# Altium schematic symbol library Temperature Sensor.SchLib: 361 symbols (part 5 of 9)
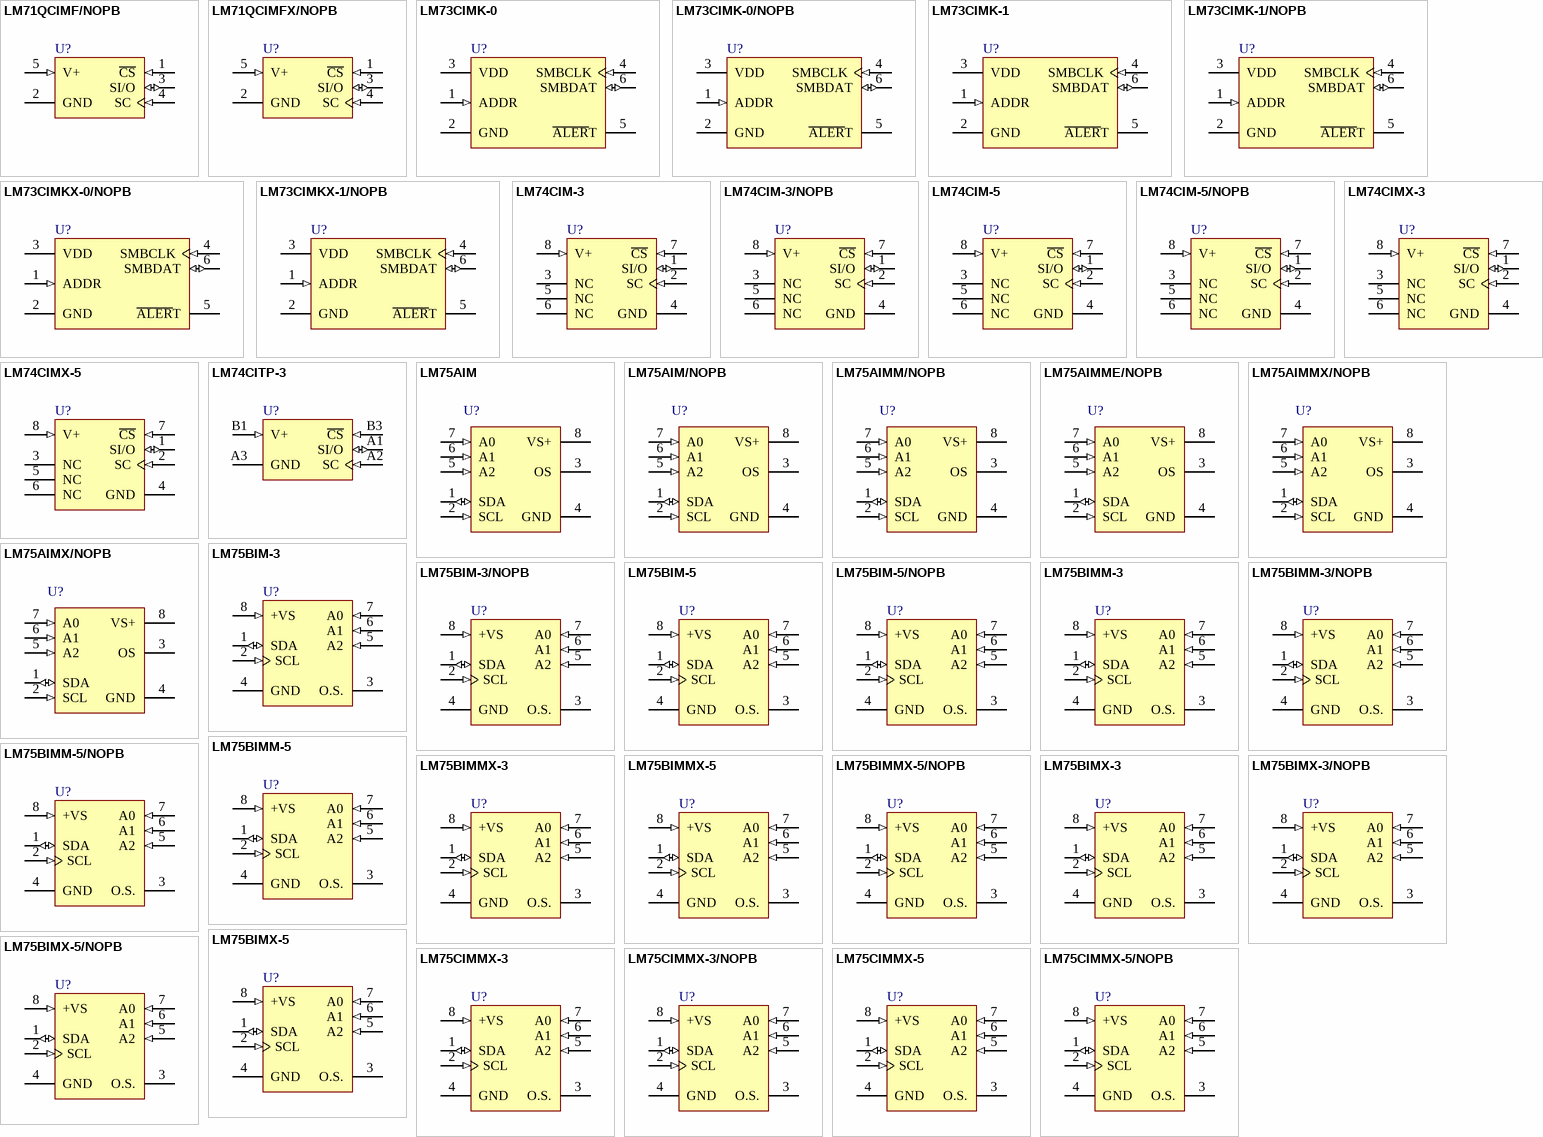
[diagram p13: symbols LM71QCIMF/NOPB to LM75CIMMX-5/NOPB]

## LM74CIM-5/NOPB
designator U?
SPI/MICROWIRE 12-Bit Plus Sign Temperature Sensor, 8-pin Narrow SOIC, Pb-Free; PartNumber: LM74CIM-5/NOPB; Manufacturer: National Semiconductor; PackageTopMarking: NSZXTT*LM74*CIM5; PowerWise: N; CompType: Temp Sensor IC; High-Reliability: Y; DatasheetVersion: May-2005; PackageVersion: revM, May-2009; PackageReference: M08A; PackageDescription: SOIC Narrow, 4.9 x 3.9 x 1.45mm, 8 Lead, 1.27mm Pitch; RoHS: Y; PinCount: 8; Code_JEDEC: MS-012-AA; Code_IPC: SOIC127P600-8; ComponentLink1Description: Manufacturer URL; ComponentLink1URL: http://www.national.com/; ComponentLink2Description: LM74 Datasheet; ComponentLink2URL: http://www.national.com/ds/LM/LM74.pdf; ComponentLink3Description: LM74 Web Page; ComponentLink3URL: http://www.national.com/pf/LM/LM74.html; ComponentLink4Description: M08A Package Page; ComponentLink4URL: http://www.national.com/packaging/folders/m08a.html
footprint M08A_N (SOIC, 8-Leads, Body 4.9x3.9mm, Pitch 1.27mm, IPC Medium Density)
footprint M08A_L (SOIC, 8-Leads, Body 4.9x3.9mm, Pitch 1.27mm, IPC High Density)
footprint M08A_M (SOIC, 8-Leads, Body 4.9x3.9mm, Pitch 1.27mm, IPC Low Density)
pins: 1 SI/O (io), 2 SC (in), 3 NC, 4 GND (power), 5 NC, 6 NC, 7 ~{CS} (in), 8 V+ (in)

## LM74CIMX-3
designator U?
SPI/MICROWIRE 12-Bit Plus Sign Temperature Sensor, 8-pin Narrow SOIC; PartNumber: LM74CIMX-3; Manufacturer: National Semiconductor; PackageTopMarking: NSZXTT*LM74*CIM3; PowerWise: N; CompType: Temp Sensor IC; High-Reliability: Y; DatasheetVersion: May-2005; PackageVersion: revM, May-2009; PackageReference: M08A; PackageDescription: SOIC Narrow, 4.9 x 3.9 x 1.45mm, 8 Lead, 1.27mm Pitch; RoHS: N; PinCount: 8; Code_JEDEC: MS-012-AA; Code_IPC: SOIC127P600-8; ComponentLink1Description: Manufacturer URL; ComponentLink1URL: http://www.national.com/; ComponentLink2Description: LM74 Datasheet; ComponentLink2URL: http://www.national.com/ds/LM/LM74.pdf; ComponentLink3Description: LM74 Web Page; ComponentLink3URL: http://www.national.com/pf/LM/LM74.html; ComponentLink4Description: M08A Package Page; ComponentLink4URL: http://www.national.com/packaging/folders/m08a.html
footprint M08A_N (SOIC, 8-Leads, Body 4.9x3.9mm, Pitch 1.27mm, IPC Medium Density)
footprint M08A_L (SOIC, 8-Leads, Body 4.9x3.9mm, Pitch 1.27mm, IPC High Density)
footprint M08A_M (SOIC, 8-Leads, Body 4.9x3.9mm, Pitch 1.27mm, IPC Low Density)
pins: 1 SI/O (io), 2 SC (in), 3 NC, 4 GND (power), 5 NC, 6 NC, 7 ~{CS} (in), 8 V+ (in)

## LM74CIMX-5
designator U?
SPI/MICROWIRE 12-Bit Plus Sign Temperature Sensor, 8-pin Narrow SOIC; PartNumber: LM74CIMX-5; Manufacturer: National Semiconductor; PackageTopMarking: NSZXTT*LM74*CIM5; PowerWise: N; CompType: Temp Sensor IC; High-Reliability: Y; DatasheetVersion: May-2005; PackageVersion: revM, May-2009; PackageReference: M08A; PackageDescription: SOIC Narrow, 4.9 x 3.9 x 1.45mm, 8 Lead, 1.27mm Pitch; RoHS: N; PinCount: 8; Code_JEDEC: MS-012-AA; Code_IPC: SOIC127P600-8; ComponentLink1Description: Manufacturer URL; ComponentLink1URL: http://www.national.com/; ComponentLink2Description: LM74 Datasheet; ComponentLink2URL: http://www.national.com/ds/LM/LM74.pdf; ComponentLink3Description: LM74 Web Page; ComponentLink3URL: http://www.national.com/pf/LM/LM74.html; ComponentLink4Description: M08A Package Page; ComponentLink4URL: http://www.national.com/packaging/folders/m08a.html
footprint M08A_N (SOIC, 8-Leads, Body 4.9x3.9mm, Pitch 1.27mm, IPC Medium Density)
footprint M08A_L (SOIC, 8-Leads, Body 4.9x3.9mm, Pitch 1.27mm, IPC High Density)
footprint M08A_M (SOIC, 8-Leads, Body 4.9x3.9mm, Pitch 1.27mm, IPC Low Density)
pins: 1 SI/O (io), 2 SC (in), 3 NC, 4 GND (power), 5 NC, 6 NC, 7 ~{CS} (in), 8 V+ (in)

## LM74CITP-3
designator U?
SPI/MICROWIRE 12-Bit Plus Sign Temperature Sensor, 5-pin Micro SMD; PartNumber: LM74CITP-3; Manufacturer: National Semiconductor; PackageTopMarking: XV*I 10; PowerWise: N; CompType: Temp Sensor IC; High-Reliability: Y; DatasheetVersion: May-2005; PackageVersion: revA, Apr-2005; PackageReference: TPD05QSA; PackageDescription: Thin Micro SMD, 5 Bump, 1.0mm Pitch; RoHS: Y; PinCount: 5; ComponentLink1Description: Manufacturer URL; ComponentLink1URL: http://www.national.com/; ComponentLink2Description: LM74 Datasheet; ComponentLink2URL: http://www.national.com/ds/LM/LM74.pdf; ComponentLink3Description: LM74 Web Page; ComponentLink3URL: http://www.national.com/pf/LM/LM74.html; ComponentLink4Description: TPD05QSA Package Page; ComponentLink4URL: http://www.national.com/packaging/folders/tpd05qsa.html
footprint TPD05QSA (Micro SMD, 5-Leads, Body 1.59x1.64mm, Pitch 0.5mm, NSC Recommended)
pins: A1 SI/O (io), A2 SC (in), A3 GND (power), B1 V+ (in), B3 ~{CS} (in)

## LM75AIM
designator U?
Digital Temperature Sensor and Thermal Watchdog with Two-Wire Interface, 8-pin Narrow SOIC; PartNumber: LM75AIM; Manufacturer: National Semiconductor; PackageTopMarking: NSZXTT*LM75*AIM; PowerWise: N; CompType: Temp Sensor IC; High-Reliability: Y; DatasheetVersion: Jan-2009; PackageVersion: revM, May-2009; PackageReference: M08A; PackageDescription: SOIC Narrow, 4.9 x 3.9 x 1.45mm, 8 Lead, 1.27mm Pitch; RoHS: Y; PinCount: 8; Code_JEDEC: MS-012-AA; Code_IPC: SOIC127P600-8; ComponentLink1Description: Manufacturer URL; ComponentLink1URL: http://www.national.com/; ComponentLink2Description: LM75 Datasheet; ComponentLink2URL: http://www.national.com/ds/LM/LM75.pdf; ComponentLink3Description: LM75 Web Page; ComponentLink3URL: http://www.national.com/pf/LM/LM75.html; ComponentLink4Description: M08A Package Page; ComponentLink4URL: http://www.national.com/packaging/folders/m08a.html
footprint M08A_N (SOIC, 8-Leads, Body 4.9x3.9mm, Pitch 1.27mm, IPC Medium Density)
footprint M08A_L (SOIC, 8-Leads, Body 4.9x3.9mm, Pitch 1.27mm, IPC High Density)
footprint M08A_M (SOIC, 8-Leads, Body 4.9x3.9mm, Pitch 1.27mm, IPC Low Density)
pins: 1 SDA (io), 2 SCL (in), 3 OS (oc), 4 GND (power), 5 A2 (in), 6 A1 (in), 7 A0 (in), 8 VS+ (power)

## LM75AIM/NOPB
designator U?
Digital Temperature Sensor and Thermal Watchdog with Two-Wire Interface, 8-pin Narrow SOIC, Pb-Free; PartNumber: LM75AIM/NOPB; Manufacturer: National Semiconductor; PackageTopMarking: NSZXTT*LM75*AIM; PowerWise: N; CompType: Temp Sensor IC; High-Reliability: Y; DatasheetVersion: Aug-2009; PackageVersion: revM, May-2009; PackageReference: M08A; PackageDescription: SOIC Narrow, 4.9 x 3.9 x 1.45mm, 8 Lead, 1.27mm Pitch; RoHS: Y; PinCount: 8; Code_JEDEC: MS-012-AA; Code_IPC: SOIC127P600-8; ComponentLink1Description: Manufacturer URL; ComponentLink1URL: http://www.national.com/; ComponentLink2Description: LM75A Datasheet; ComponentLink2URL: http://www.national.com/ds/LM/LM75A.pdf; ComponentLink3Description: LM75A Web Page; ComponentLink3URL: http://www.national.com/pf/LM/LM75A.html; ComponentLink4Description: M08A Package Page; ComponentLink4URL: http://www.national.com/packaging/folders/m08a.html
footprint M08A_N (SOIC, 8-Leads, Body 4.9x3.9mm, Pitch 1.27mm, IPC Medium Density)
footprint M08A_L (SOIC, 8-Leads, Body 4.9x3.9mm, Pitch 1.27mm, IPC High Density)
footprint M08A_M (SOIC, 8-Leads, Body 4.9x3.9mm, Pitch 1.27mm, IPC Low Density)
pins: 1 SDA (io), 2 SCL (in), 3 OS (oc), 4 GND (power), 5 A2 (in), 6 A1 (in), 7 A0 (in), 8 VS+ (power)

## LM75AIMM/NOPB
designator U?
Digital Temperature Sensor and Thermal Watchdog with Two-Wire Interface, 8-pin Mini SOIC, Pb-Free; PartNumber: LM75AIMM/NOPB; Manufacturer: National Semiconductor; PackageTopMarking: ZXTT*T00A; PowerWise: N; CompType: Temp Sensor IC; High-Reliability: Y; DatasheetVersion: Aug-2009; PackageVersion: revF, Apr-2008; PackageReference: MUA08A; PackageDescription: MINI SOIC, .118 x .118 x .034in, 8 Lead, .0256in Pitch; RoHS: Y; PinCount: 8; Code_JEDEC: MO-187-AA; ComponentLink1Description: Manufacturer URL; ComponentLink1URL: http://www.national.com/; ComponentLink2Description: LM75A Datasheet; ComponentLink2URL: http://www.national.com/ds/LM/LM75A.pdf; ComponentLink3Description: LM75A Web Page; ComponentLink3URL: http://www.national.com/pf/LM/LM75A.html; ComponentLink4Description: MUA08A Package Page; ComponentLink4URL: http://www.national.com/packaging/folders/mua08a.html
footprint MUA08A_N (TSOP, 8-Leads, Body 3x3mm, Pitch 0.65mm, IPC Medium Density)
footprint MUA08A_L (TSOP, 8-Leads, Body 3x3mm, Pitch 0.65mm, IPC High Density)
footprint MUA08A_M (TSOP, 8-Leads, Body 3x3mm, Pitch 0.65mm, IPC Low Density)
pins: 1 SDA (io), 2 SCL (in), 3 OS (oc), 4 GND (power), 5 A2 (in), 6 A1 (in), 7 A0 (in), 8 VS+ (power)

## LM75AIMME/NOPB
designator U?
Digital Temperature Sensor and Thermal Watchdog with Two-Wire Interface, 8-pin Mini SOIC, Pb-Free; PartNumber: LM75AIMME/NOPB; Manufacturer: National Semiconductor; PackageTopMarking: ZXTT*T00A; PowerWise: N; CompType: Temp Sensor IC; High-Reliability: Y; DatasheetVersion: Aug-2009; PackageVersion: revF, Apr-2008; PackageReference: MUA08A; PackageDescription: MINI SOIC, .118 x .118 x .034in, 8 Lead, .0256in Pitch; RoHS: Y; PinCount: 8; Code_JEDEC: MO-187-AA; ComponentLink1Description: Manufacturer URL; ComponentLink1URL: http://www.national.com/; ComponentLink2Description: LM75A Datasheet; ComponentLink2URL: http://www.national.com/ds/LM/LM75A.pdf; ComponentLink3Description: LM75A Web Page; ComponentLink3URL: http://www.national.com/pf/LM/LM75A.html; ComponentLink4Description: MUA08A Package Page; ComponentLink4URL: http://www.national.com/packaging/folders/mua08a.html
footprint MUA08A_N (TSOP, 8-Leads, Body 3x3mm, Pitch 0.65mm, IPC Medium Density)
footprint MUA08A_L (TSOP, 8-Leads, Body 3x3mm, Pitch 0.65mm, IPC High Density)
footprint MUA08A_M (TSOP, 8-Leads, Body 3x3mm, Pitch 0.65mm, IPC Low Density)
pins: 1 SDA (io), 2 SCL (in), 3 OS (oc), 4 GND (power), 5 A2 (in), 6 A1 (in), 7 A0 (in), 8 VS+ (power)

## LM75AIMMX/NOPB
designator U?
Digital Temperature Sensor and Thermal Watchdog with Two-Wire Interface, 8-pin Mini SOIC, Pb-Free; PartNumber: LM75AIMMX/NOPB; Manufacturer: National Semiconductor; PackageTopMarking: ZXTT*T00A; PowerWise: N; CompType: Temp Sensor IC; High-Reliability: Y; DatasheetVersion: Aug-2009; PackageVersion: revF, Apr-2008; PackageReference: MUA08A; PackageDescription: MINI SOIC, .118 x .118 x .034in, 8 Lead, .0256in Pitch; RoHS: Y; PinCount: 8; Code_JEDEC: MO-187-AA; ComponentLink1Description: Manufacturer URL; ComponentLink1URL: http://www.national.com/; ComponentLink2Description: LM75A Datasheet; ComponentLink2URL: http://www.national.com/ds/LM/LM75A.pdf; ComponentLink3Description: LM75A Web Page; ComponentLink3URL: http://www.national.com/pf/LM/LM75A.html; ComponentLink4Description: MUA08A Package Page; ComponentLink4URL: http://www.national.com/packaging/folders/mua08a.html
footprint MUA08A_N (TSOP, 8-Leads, Body 3x3mm, Pitch 0.65mm, IPC Medium Density)
footprint MUA08A_L (TSOP, 8-Leads, Body 3x3mm, Pitch 0.65mm, IPC High Density)
footprint MUA08A_M (TSOP, 8-Leads, Body 3x3mm, Pitch 0.65mm, IPC Low Density)
pins: 1 SDA (io), 2 SCL (in), 3 OS (oc), 4 GND (power), 5 A2 (in), 6 A1 (in), 7 A0 (in), 8 VS+ (power)

## LM75AIMX/NOPB
designator U?
Digital Temperature Sensor and Thermal Watchdog with Two-Wire Interface, 8-pin Narrow SOIC, Pb-Free; PartNumber: LM75AIMX/NOPB; Manufacturer: National Semiconductor; PackageTopMarking: NSZXTT*LM75*AIM; PowerWise: N; CompType: Temp Sensor IC; High-Reliability: Y; DatasheetVersion: Aug-2009; PackageVersion: revM, May-2009; PackageReference: M08A; PackageDescription: SOIC Narrow, 4.9 x 3.9 x 1.45mm, 8 Lead, 1.27mm Pitch; RoHS: Y; PinCount: 8; Code_JEDEC: MS-012-AA; Code_IPC: SOIC127P600-8; ComponentLink1Description: Manufacturer URL; ComponentLink1URL: http://www.national.com/; ComponentLink2Description: LM75A Datasheet; ComponentLink2URL: http://www.national.com/ds/LM/LM75A.pdf; ComponentLink3Description: LM75A Web Page; ComponentLink3URL: http://www.national.com/pf/LM/LM75A.html; ComponentLink4Description: M08A Package Page; ComponentLink4URL: http://www.national.com/packaging/folders/m08a.html
footprint M08A_N (SOIC, 8-Leads, Body 4.9x3.9mm, Pitch 1.27mm, IPC Medium Density)
footprint M08A_L (SOIC, 8-Leads, Body 4.9x3.9mm, Pitch 1.27mm, IPC High Density)
footprint M08A_M (SOIC, 8-Leads, Body 4.9x3.9mm, Pitch 1.27mm, IPC Low Density)
pins: 1 SDA (io), 2 SCL (in), 3 OS (oc), 4 GND (power), 5 A2 (in), 6 A1 (in), 7 A0 (in), 8 VS+ (power)

## LM75BIM-3
designator U?
Digital Temperature Sensor and Thermal Watchdog with Two-Wire Interface, 8-pin Narrow SOIC; PartNumber: LM75BIM-3; Manufacturer: National Semiconductor; PackageTopMarking: NSZXTT*LM75*BIM-3; PowerWise: N; CompType: Temp Sensor IC; High-Reliability: Y; DatasheetVersion: Oct-2005; PackageVersion: revM, May-2009; PackageReference: M08A; PackageDescription: SOIC Narrow, 4.9 x 3.9 x 1.45mm, 8 Lead, 1.27mm Pitch; RoHS: N; PinCount: 8; Code_JEDEC: MS-012-AA; Code_IPC: SOIC127P600-8; ComponentLink1Description: Manufacturer URL; ComponentLink1URL: http://www.national.com/; ComponentLink2Description: LM75B Datasheet; ComponentLink2URL: http://www.national.com/ds/LM/LM75B.pdf; ComponentLink3Description: LM75B Web Page; ComponentLink3URL: http://www.national.com/pf/LM/LM75B.html; ComponentLink4Description: M08A Package Page; ComponentLink4URL: http://www.national.com/packaging/folders/m08a.html
footprint M08A_N (SOIC, 8-Leads, Body 4.9x3.9mm, Pitch 1.27mm, IPC Medium Density)
footprint M08A_L (SOIC, 8-Leads, Body 4.9x3.9mm, Pitch 1.27mm, IPC High Density)
footprint M08A_M (SOIC, 8-Leads, Body 4.9x3.9mm, Pitch 1.27mm, IPC Low Density)
pins: 1 SDA (io), 2 SCL (in), 3 O.S. (oc), 4 GND (power), 5 A2 (in), 6 A1 (in), 7 A0 (in), 8 +VS (in)

## LM75BIM-3/NOPB
designator U?
Digital Temperature Sensor and Thermal Watchdog with Two-Wire Interface, 8-pin Narrow SOIC, Pb-Free; PartNumber: LM75BIM-3/NOPB; Manufacturer: National Semiconductor; PackageTopMarking: NSZXTT*LM75*BIM-3; PowerWise: N; CompType: Temp Sensor IC; High-Reliability: Y; DatasheetVersion: Jul-2009; PackageVersion: revM, May-2009; PackageReference: M08A; PackageDescription: SOIC Narrow, 4.9 x 3.9 x 1.45mm, 8 Lead, 1.27mm Pitch; RoHS: Y; PinCount: 8; Code_JEDEC: MS-012-AA; Code_IPC: SOIC127P600-8; ComponentLink1Description: Manufacturer URL; ComponentLink1URL: http://www.national.com/; ComponentLink2Description: LM75B Datasheet; ComponentLink2URL: http://www.national.com/ds/LM/LM75B.pdf; ComponentLink3Description: LM75B Web Page; ComponentLink3URL: http://www.national.com/pf/LM/LM75B.html; ComponentLink4Description: M08A Package Page; ComponentLink4URL: http://www.national.com/packaging/folders/m08a.html
footprint M08A_N (SOIC, 8-Leads, Body 4.9x3.9mm, Pitch 1.27mm, IPC Medium Density)
footprint M08A_L (SOIC, 8-Leads, Body 4.9x3.9mm, Pitch 1.27mm, IPC High Density)
footprint M08A_M (SOIC, 8-Leads, Body 4.9x3.9mm, Pitch 1.27mm, IPC Low Density)
pins: 1 SDA (io), 2 SCL (in), 3 O.S. (oc), 4 GND (power), 5 A2 (in), 6 A1 (in), 7 A0 (in), 8 +VS (in)

## LM75BIM-5
designator U?
Digital Temperature Sensor and Thermal Watchdog with Two-Wire Interface, 8-pin Narrow SOIC; PartNumber: LM75BIM-5; Manufacturer: National Semiconductor; PackageTopMarking: NSZXTT*LM75*BIM-5; PowerWise: N; CompType: Temp Sensor IC; High-Reliability: Y; DatasheetVersion: Oct-2005; PackageVersion: revM, May-2009; PackageReference: M08A; PackageDescription: SOIC Narrow, 4.9 x 3.9 x 1.45mm, 8 Lead, 1.27mm Pitch; RoHS: N; PinCount: 8; Code_JEDEC: MS-012-AA; Code_IPC: SOIC127P600-8; ComponentLink1Description: Manufacturer URL; ComponentLink1URL: http://www.national.com/; ComponentLink2Description: LM75B Datasheet; ComponentLink2URL: http://www.national.com/ds/LM/LM75B.pdf; ComponentLink3Description: LM75B Web Page; ComponentLink3URL: http://www.national.com/pf/LM/LM75B.html; ComponentLink4Description: M08A Package Page; ComponentLink4URL: http://www.national.com/packaging/folders/m08a.html
footprint M08A_N (SOIC, 8-Leads, Body 4.9x3.9mm, Pitch 1.27mm, IPC Medium Density)
footprint M08A_L (SOIC, 8-Leads, Body 4.9x3.9mm, Pitch 1.27mm, IPC High Density)
footprint M08A_M (SOIC, 8-Leads, Body 4.9x3.9mm, Pitch 1.27mm, IPC Low Density)
pins: 1 SDA (io), 2 SCL (in), 3 O.S. (oc), 4 GND (power), 5 A2 (in), 6 A1 (in), 7 A0 (in), 8 +VS (in)

## LM75BIM-5/NOPB
designator U?
Digital Temperature Sensor and Thermal Watchdog with Two-Wire Interface, 8-pin Narrow SOIC, Pb-Free; PartNumber: LM75BIM-5/NOPB; Manufacturer: National Semiconductor; PackageTopMarking: NSZXTT*LM75*BIM-5; PowerWise: N; CompType: Temp Sensor IC; High-Reliability: Y; DatasheetVersion: Jul-2009; PackageVersion: revM, May-2009; PackageReference: M08A; PackageDescription: SOIC Narrow, 4.9 x 3.9 x 1.45mm, 8 Lead, 1.27mm Pitch; RoHS: Y; PinCount: 8; Code_JEDEC: MS-012-AA; Code_IPC: SOIC127P600-8; ComponentLink1Description: Manufacturer URL; ComponentLink1URL: http://www.national.com/; ComponentLink2Description: LM75B Datasheet; ComponentLink2URL: http://www.national.com/ds/LM/LM75B.pdf; ComponentLink3Description: LM75B Web Page; ComponentLink3URL: http://www.national.com/pf/LM/LM75B.html; ComponentLink4Description: M08A Package Page; ComponentLink4URL: http://www.national.com/packaging/folders/m08a.html
footprint M08A_N (SOIC, 8-Leads, Body 4.9x3.9mm, Pitch 1.27mm, IPC Medium Density)
footprint M08A_L (SOIC, 8-Leads, Body 4.9x3.9mm, Pitch 1.27mm, IPC High Density)
footprint M08A_M (SOIC, 8-Leads, Body 4.9x3.9mm, Pitch 1.27mm, IPC Low Density)
pins: 1 SDA (io), 2 SCL (in), 3 O.S. (oc), 4 GND (power), 5 A2 (in), 6 A1 (in), 7 A0 (in), 8 +VS (in)

## LM75BIMM-3
designator U?
Digital Temperature Sensor and Thermal Watchdog with Two-Wire Interface, 8-pin Mini SOIC; PartNumber: LM75BIMM-3; Manufacturer: National Semiconductor; PackageTopMarking: ZXTT*T01B; PowerWise: N; CompType: Temp Sensor IC; High-Reliability: Y; DatasheetVersion: Oct-2005; PackageVersion: revF, Apr-2008; PackageReference: MUA08A; PackageDescription: MINI SOIC, .118 x .118 x .034in, 8 Lead, .0256in Pitch; RoHS: N; PinCount: 8; Code_JEDEC: MO-187-AA; ComponentLink1Description: Manufacturer URL; ComponentLink1URL: http://www.national.com/; ComponentLink2Description: LM75B Datasheet; ComponentLink2URL: http://www.national.com/ds/LM/LM75B.pdf; ComponentLink3Description: LM75B Web Page; ComponentLink3URL: http://www.national.com/pf/LM/LM75B.html; ComponentLink4Description: MUA08A Package Page; ComponentLink4URL: http://www.national.com/packaging/folders/mua08a.html
footprint MUA08A_N (TSOP, 8-Leads, Body 3x3mm, Pitch 0.65mm, IPC Medium Density)
footprint MUA08A_L (TSOP, 8-Leads, Body 3x3mm, Pitch 0.65mm, IPC High Density)
footprint MUA08A_M (TSOP, 8-Leads, Body 3x3mm, Pitch 0.65mm, IPC Low Density)
pins: 1 SDA (io), 2 SCL (in), 3 O.S. (oc), 4 GND (power), 5 A2 (in), 6 A1 (in), 7 A0 (in), 8 +VS (in)

## LM75BIMM-3/NOPB
designator U?
Digital Temperature Sensor and Thermal Watchdog with Two-Wire Interface, 8-pin Mini SOIC, Pb-Free; PartNumber: LM75BIMM-3/NOPB; Manufacturer: National Semiconductor; PackageTopMarking: ZXTT*T01B; PowerWise: N; CompType: Temp Sensor IC; High-Reliability: Y; DatasheetVersion: Jul-2009; PackageVersion: revF, Apr-2008; PackageReference: MUA08A; PackageDescription: MINI SOIC, .118 x .118 x .034in, 8 Lead, .0256in Pitch; RoHS: Y; PinCount: 8; Code_JEDEC: MO-187-AA; ComponentLink1Description: Manufacturer URL; ComponentLink1URL: http://www.national.com/; ComponentLink2Description: LM75B Datasheet; ComponentLink2URL: http://www.national.com/ds/LM/LM75B.pdf; ComponentLink3Description: LM75B Web Page; ComponentLink3URL: http://www.national.com/pf/LM/LM75B.html; ComponentLink4Description: MUA08A Package Page; ComponentLink4URL: http://www.national.com/packaging/folders/mua08a.html
footprint MUA08A_N (TSOP, 8-Leads, Body 3x3mm, Pitch 0.65mm, IPC Medium Density)
footprint MUA08A_L (TSOP, 8-Leads, Body 3x3mm, Pitch 0.65mm, IPC High Density)
footprint MUA08A_M (TSOP, 8-Leads, Body 3x3mm, Pitch 0.65mm, IPC Low Density)
pins: 1 SDA (io), 2 SCL (in), 3 O.S. (oc), 4 GND (power), 5 A2 (in), 6 A1 (in), 7 A0 (in), 8 +VS (in)

## LM75BIMM-5
designator U?
Digital Temperature Sensor and Thermal Watchdog with Two-Wire Interface, 8-pin Mini SOIC; PartNumber: LM75BIMM-5; Manufacturer: National Semiconductor; PackageTopMarking: ZXTT*T00B; PowerWise: N; CompType: Temp Sensor IC; High-Reliability: Y; DatasheetVersion: Oct-2005; PackageVersion: revF, Apr-2008; PackageReference: MUA08A; PackageDescription: MINI SOIC, .118 x .118 x .034in, 8 Lead, .0256in Pitch; RoHS: N; PinCount: 8; Code_JEDEC: MO-187-AA; ComponentLink1Description: Manufacturer URL; ComponentLink1URL: http://www.national.com/; ComponentLink2Description: LM75B Datasheet; ComponentLink2URL: http://www.national.com/ds/LM/LM75B.pdf; ComponentLink3Description: LM75B Web Page; ComponentLink3URL: http://www.national.com/pf/LM/LM75B.html; ComponentLink4Description: MUA08A Package Page; ComponentLink4URL: http://www.national.com/packaging/folders/mua08a.html
footprint MUA08A_N (TSOP, 8-Leads, Body 3x3mm, Pitch 0.65mm, IPC Medium Density)
footprint MUA08A_L (TSOP, 8-Leads, Body 3x3mm, Pitch 0.65mm, IPC High Density)
footprint MUA08A_M (TSOP, 8-Leads, Body 3x3mm, Pitch 0.65mm, IPC Low Density)
pins: 1 SDA (io), 2 SCL (in), 3 O.S. (oc), 4 GND (power), 5 A2 (in), 6 A1 (in), 7 A0 (in), 8 +VS (in)

## LM75BIMM-5/NOPB
designator U?
Digital Temperature Sensor and Thermal Watchdog with Two-Wire Interface, 8-pin Mini SOIC, Pb-Free; PartNumber: LM75BIMM-5/NOPB; Manufacturer: National Semiconductor; PackageTopMarking: ZXTT*T00B; PowerWise: N; CompType: Temp Sensor IC; High-Reliability: Y; DatasheetVersion: Jul-2009; PackageVersion: revF, Apr-2008; PackageReference: MUA08A; PackageDescription: MINI SOIC, .118 x .118 x .034in, 8 Lead, .0256in Pitch; RoHS: Y; PinCount: 8; Code_JEDEC: MO-187-AA; ComponentLink1Description: Manufacturer URL; ComponentLink1URL: http://www.national.com/; ComponentLink2Description: LM75B Datasheet; ComponentLink2URL: http://www.national.com/ds/LM/LM75B.pdf; ComponentLink3Description: LM75B Web Page; ComponentLink3URL: http://www.national.com/pf/LM/LM75B.html; ComponentLink4Description: MUA08A Package Page; ComponentLink4URL: http://www.national.com/packaging/folders/mua08a.html
footprint MUA08A_N (TSOP, 8-Leads, Body 3x3mm, Pitch 0.65mm, IPC Medium Density)
footprint MUA08A_L (TSOP, 8-Leads, Body 3x3mm, Pitch 0.65mm, IPC High Density)
footprint MUA08A_M (TSOP, 8-Leads, Body 3x3mm, Pitch 0.65mm, IPC Low Density)
pins: 1 SDA (io), 2 SCL (in), 3 O.S. (oc), 4 GND (power), 5 A2 (in), 6 A1 (in), 7 A0 (in), 8 +VS (in)

## LM75BIMMX-3
designator U?
Digital Temperature Sensor and Thermal Watchdog with Two-Wire Interface, 8-pin Mini SOIC; PartNumber: LM75BIMMX-3; Manufacturer: National Semiconductor; PackageTopMarking: ZXTT*T01B; PowerWise: N; CompType: Temp Sensor IC; High-Reliability: Y; DatasheetVersion: Jul-2009; PackageVersion: revF, Apr-2008; PackageReference: MUA08A; PackageDescription: MINI SOIC, .118 x .118 x .034in, 8 Lead, .0256in Pitch; RoHS: N; PinCount: 8; Code_JEDEC: MO-187-AA; ComponentLink1Description: Manufacturer URL; ComponentLink1URL: http://www.national.com/; ComponentLink2Description: LM75B Datasheet; ComponentLink2URL: http://www.national.com/ds/LM/LM75B.pdf; ComponentLink3Description: LM75B Web Page; ComponentLink3URL: http://www.national.com/pf/LM/LM75B.html; ComponentLink4Description: MUA08A Package Page; ComponentLink4URL: http://www.national.com/packaging/folders/mua08a.html
footprint MUA08A_N (TSOP, 8-Leads, Body 3x3mm, Pitch 0.65mm, IPC Medium Density)
footprint MUA08A_L (TSOP, 8-Leads, Body 3x3mm, Pitch 0.65mm, IPC High Density)
footprint MUA08A_M (TSOP, 8-Leads, Body 3x3mm, Pitch 0.65mm, IPC Low Density)
pins: 1 SDA (io), 2 SCL (in), 3 O.S. (oc), 4 GND (power), 5 A2 (in), 6 A1 (in), 7 A0 (in), 8 +VS (in)

## LM75BIMMX-5
designator U?
Digital Temperature Sensor and Thermal Watchdog with Two-Wire Interface, 8-pin Mini SOIC; PartNumber: LM75BIMMX-5; Manufacturer: National Semiconductor; PackageTopMarking: ZXTT*T00B; PowerWise: N; CompType: Temp Sensor IC; High-Reliability: Y; DatasheetVersion: Jul-2009; PackageVersion: revF, Apr-2008; PackageReference: MUA08A; PackageDescription: MINI SOIC, .118 x .118 x .034in, 8 Lead, .0256in Pitch; RoHS: N; PinCount: 8; Code_JEDEC: MO-187-AA; ComponentLink1Description: Manufacturer URL; ComponentLink1URL: http://www.national.com/; ComponentLink2Description: LM75B Datasheet; ComponentLink2URL: http://www.national.com/ds/LM/LM75B.pdf; ComponentLink3Description: LM75B Web Page; ComponentLink3URL: http://www.national.com/pf/LM/LM75B.html; ComponentLink4Description: MUA08A Package Page; ComponentLink4URL: http://www.national.com/packaging/folders/mua08a.html
footprint MUA08A_N (TSOP, 8-Leads, Body 3x3mm, Pitch 0.65mm, IPC Medium Density)
footprint MUA08A_L (TSOP, 8-Leads, Body 3x3mm, Pitch 0.65mm, IPC High Density)
footprint MUA08A_M (TSOP, 8-Leads, Body 3x3mm, Pitch 0.65mm, IPC Low Density)
pins: 1 SDA (io), 2 SCL (in), 3 O.S. (oc), 4 GND (power), 5 A2 (in), 6 A1 (in), 7 A0 (in), 8 +VS (in)

## LM75BIMMX-5/NOPB
designator U?
Digital Temperature Sensor and Thermal Watchdog with Two-Wire Interface, 8-pin Mini SOIC, Pb-Free; PartNumber: LM75BIMMX-5/NOPB; Manufacturer: National Semiconductor; PackageTopMarking: ZXTT*T00B; PowerWise: N; CompType: Temp Sensor IC; High-Reliability: Y; DatasheetVersion: Jul-2009; PackageVersion: revF, Apr-2008; PackageReference: MUA08A; PackageDescription: MINI SOIC, .118 x .118 x .034in, 8 Lead, .0256in Pitch; RoHS: Y; PinCount: 8; Code_JEDEC: MO-187-AA; ComponentLink1Description: Manufacturer URL; ComponentLink1URL: http://www.national.com/; ComponentLink2Description: LM75B Datasheet; ComponentLink2URL: http://www.national.com/ds/LM/LM75B.pdf; ComponentLink3Description: LM75B Web Page; ComponentLink3URL: http://www.national.com/pf/LM/LM75B.html; ComponentLink4Description: MUA08A Package Page; ComponentLink4URL: http://www.national.com/packaging/folders/mua08a.html
footprint MUA08A_N (TSOP, 8-Leads, Body 3x3mm, Pitch 0.65mm, IPC Medium Density)
footprint MUA08A_L (TSOP, 8-Leads, Body 3x3mm, Pitch 0.65mm, IPC High Density)
footprint MUA08A_M (TSOP, 8-Leads, Body 3x3mm, Pitch 0.65mm, IPC Low Density)
pins: 1 SDA (io), 2 SCL (in), 3 O.S. (oc), 4 GND (power), 5 A2 (in), 6 A1 (in), 7 A0 (in), 8 +VS (in)

## LM75BIMX-3
designator U?
Digital Temperature Sensor and Thermal Watchdog with Two-Wire Interface, 8-pin Narrow SOIC; PartNumber: LM75BIMX-3; Manufacturer: National Semiconductor; PackageTopMarking: NSZXTT*LM75*BIM-3; PowerWise: N; CompType: Temp Sensor IC; High-Reliability: Y; DatasheetVersion: Jul-2009; PackageVersion: revM, May-2009; PackageReference: M08A; PackageDescription: SOIC Narrow, 4.9 x 3.9 x 1.45mm, 8 Lead, 1.27mm Pitch; RoHS: N; PinCount: 8; Code_JEDEC: MS-012-AA; Code_IPC: SOIC127P600-8; ComponentLink1Description: Manufacturer URL; ComponentLink1URL: http://www.national.com/; ComponentLink2Description: LM75B Datasheet; ComponentLink2URL: http://www.national.com/ds/LM/LM75B.pdf; ComponentLink3Description: LM75B Web Page; ComponentLink3URL: http://www.national.com/pf/LM/LM75B.html; ComponentLink4Description: M08A Package Page; ComponentLink4URL: http://www.national.com/packaging/folders/m08a.html
footprint M08A_N (SOIC, 8-Leads, Body 4.9x3.9mm, Pitch 1.27mm, IPC Medium Density)
footprint M08A_L (SOIC, 8-Leads, Body 4.9x3.9mm, Pitch 1.27mm, IPC High Density)
footprint M08A_M (SOIC, 8-Leads, Body 4.9x3.9mm, Pitch 1.27mm, IPC Low Density)
pins: 1 SDA (io), 2 SCL (in), 3 O.S. (oc), 4 GND (power), 5 A2 (in), 6 A1 (in), 7 A0 (in), 8 +VS (in)

## LM75BIMX-3/NOPB
designator U?
Digital Temperature Sensor and Thermal Watchdog with Two-Wire Interface, 8-pin Narrow SOIC, Pb-Free; PartNumber: LM75BIMX-3/NOPB; Manufacturer: National Semiconductor; PackageTopMarking: NSZXTT*LM75*BIM-3; PowerWise: N; CompType: Temp Sensor IC; High-Reliability: Y; DatasheetVersion: Jul-2009; PackageVersion: revM, May-2009; PackageReference: M08A; PackageDescription: SOIC Narrow, 4.9 x 3.9 x 1.45mm, 8 Lead, 1.27mm Pitch; RoHS: Y; PinCount: 8; Code_JEDEC: MS-012-AA; Code_IPC: SOIC127P600-8; ComponentLink1Description: Manufacturer URL; ComponentLink1URL: http://www.national.com/; ComponentLink2Description: LM75B Datasheet; ComponentLink2URL: http://www.national.com/ds/LM/LM75B.pdf; ComponentLink3Description: LM75B Web Page; ComponentLink3URL: http://www.national.com/pf/LM/LM75B.html; ComponentLink4Description: M08A Package Page; ComponentLink4URL: http://www.national.com/packaging/folders/m08a.html
footprint M08A_N (SOIC, 8-Leads, Body 4.9x3.9mm, Pitch 1.27mm, IPC Medium Density)
footprint M08A_L (SOIC, 8-Leads, Body 4.9x3.9mm, Pitch 1.27mm, IPC High Density)
footprint M08A_M (SOIC, 8-Leads, Body 4.9x3.9mm, Pitch 1.27mm, IPC Low Density)
pins: 1 SDA (io), 2 SCL (in), 3 O.S. (oc), 4 GND (power), 5 A2 (in), 6 A1 (in), 7 A0 (in), 8 +VS (in)

## LM75BIMX-5
designator U?
Digital Temperature Sensor and Thermal Watchdog with Two-Wire Interface, 8-pin Narrow SOIC; PartNumber: LM75BIMX-5; Manufacturer: National Semiconductor; PackageTopMarking: NSZXTT*LM75*BIM-5; PowerWise: N; CompType: Temp Sensor IC; High-Reliability: Y; DatasheetVersion: Jul-2009; PackageVersion: revM, May-2009; PackageReference: M08A; PackageDescription: SOIC Narrow, 4.9 x 3.9 x 1.45mm, 8 Lead, 1.27mm Pitch; RoHS: N; PinCount: 8; Code_JEDEC: MS-012-AA; Code_IPC: SOIC127P600-8; ComponentLink1Description: Manufacturer URL; ComponentLink1URL: http://www.national.com/; ComponentLink2Description: LM75B Datasheet; ComponentLink2URL: http://www.national.com/ds/LM/LM75B.pdf; ComponentLink3Description: LM75B Web Page; ComponentLink3URL: http://www.national.com/pf/LM/LM75B.html; ComponentLink4Description: M08A Package Page; ComponentLink4URL: http://www.national.com/packaging/folders/m08a.html
footprint M08A_N (SOIC, 8-Leads, Body 4.9x3.9mm, Pitch 1.27mm, IPC Medium Density)
footprint M08A_L (SOIC, 8-Leads, Body 4.9x3.9mm, Pitch 1.27mm, IPC High Density)
footprint M08A_M (SOIC, 8-Leads, Body 4.9x3.9mm, Pitch 1.27mm, IPC Low Density)
pins: 1 SDA (io), 2 SCL (in), 3 O.S. (oc), 4 GND (power), 5 A2 (in), 6 A1 (in), 7 A0 (in), 8 +VS (in)

## LM75BIMX-5/NOPB
designator U?
Digital Temperature Sensor and Thermal Watchdog with Two-Wire Interface, 8-pin Narrow SOIC, Pb-Free; PartNumber: LM75BIMX-5/NOPB; Manufacturer: National Semiconductor; PackageTopMarking: NSZXTT*LM75*BIM-5; PowerWise: N; CompType: Temp Sensor IC; High-Reliability: Y; DatasheetVersion: Jul-2009; PackageVersion: revM, May-2009; PackageReference: M08A; PackageDescription: SOIC Narrow, 4.9 x 3.9 x 1.45mm, 8 Lead, 1.27mm Pitch; RoHS: Y; PinCount: 8; Code_JEDEC: MS-012-AA; Code_IPC: SOIC127P600-8; ComponentLink1Description: Manufacturer URL; ComponentLink1URL: http://www.national.com/; ComponentLink2Description: LM75B Datasheet; ComponentLink2URL: http://www.national.com/ds/LM/LM75B.pdf; ComponentLink3Description: LM75B Web Page; ComponentLink3URL: http://www.national.com/pf/LM/LM75B.html; ComponentLink4Description: M08A Package Page; ComponentLink4URL: http://www.national.com/packaging/folders/m08a.html
footprint M08A_N (SOIC, 8-Leads, Body 4.9x3.9mm, Pitch 1.27mm, IPC Medium Density)
footprint M08A_L (SOIC, 8-Leads, Body 4.9x3.9mm, Pitch 1.27mm, IPC High Density)
footprint M08A_M (SOIC, 8-Leads, Body 4.9x3.9mm, Pitch 1.27mm, IPC Low Density)
pins: 1 SDA (io), 2 SCL (in), 3 O.S. (oc), 4 GND (power), 5 A2 (in), 6 A1 (in), 7 A0 (in), 8 +VS (in)

## LM75CIMMX-3
designator U?
Digital Temperature Sensor and Thermal Watchdog with Two-Wire Interface, 8 pin MINI SOIC; PartNumber: LM75CIMMX-3; Manufacturer: National Semiconductor; PackageTopMarking: ZXTT*T01C; PowerWise: N; CompType: Temp Sensor IC; High-Reliability: Y; DatasheetVersion: Jul-2009; PackageVersion: revF, Apr-2008; PackageReference: MUA08A; PackageDescription: MINI SOIC, .118 x .118 x .034in, 8 Lead, .0256in Pitch; RoHS: N; PinCount: 8; Code_JEDEC: MO-187-AA; ComponentLink1Description: Manufacturer URL; ComponentLink1URL: http://www.national.com/; ComponentLink2Description: LM75C Datasheet; ComponentLink2URL: http://www.national.com/ds/LM/LM75C.pdf; ComponentLink3Description: LM75C Web Page; ComponentLink3URL: http://www.national.com/pf/LM/LM75C.html; ComponentLink4Description: MUA08A Package Page; ComponentLink4URL: http://www.national.com/packaging/folders/mua08a.html
footprint MUA08A_N (TSOP, 8-Leads, Body 3x3mm, Pitch 0.65mm, IPC Medium Density)
footprint MUA08A_L (TSOP, 8-Leads, Body 3x3mm, Pitch 0.65mm, IPC High Density)
footprint MUA08A_M (TSOP, 8-Leads, Body 3x3mm, Pitch 0.65mm, IPC Low Density)
pins: 1 SDA (io), 2 SCL (in), 3 O.S. (oc), 4 GND (power), 5 A2 (in), 6 A1 (in), 7 A0 (in), 8 +VS (in)

## LM75CIMMX-3/NOPB
designator U?
Digital Temperature Sensor and Thermal Watchdog with Two-Wire Interface, 8 pin MINI SOIC; PartNumber: LM75CIMMX-3/NOPB; Manufacturer: National Semiconductor; PackageTopMarking: ZXTT*T01C; PowerWise: N; CompType: Temp Sensor IC; High-Reliability: Y; DatasheetVersion: Jul-2009; PackageVersion: revF, Apr-2008; PackageReference: MUA08A; PackageDescription: MINI SOIC, .118 x .118 x .034in, 8 Lead, .0256in Pitch; RoHS: Y; PinCount: 8; Code_JEDEC: MO-187-AA; ComponentLink1Description: Manufacturer URL; ComponentLink1URL: http://www.national.com/; ComponentLink2Description: LM75C Datasheet; ComponentLink2URL: http://www.national.com/ds/LM/LM75C.pdf; ComponentLink3Description: LM75C Web Page; ComponentLink3URL: http://www.national.com/pf/LM/LM75C.html; ComponentLink4Description: MUA08A Package Page; ComponentLink4URL: http://www.national.com/packaging/folders/mua08a.html
footprint MUA08A_N (TSOP, 8-Leads, Body 3x3mm, Pitch 0.65mm, IPC Medium Density)
footprint MUA08A_L (TSOP, 8-Leads, Body 3x3mm, Pitch 0.65mm, IPC High Density)
footprint MUA08A_M (TSOP, 8-Leads, Body 3x3mm, Pitch 0.65mm, IPC Low Density)
pins: 1 SDA (io), 2 SCL (in), 3 O.S. (oc), 4 GND (power), 5 A2 (in), 6 A1 (in), 7 A0 (in), 8 +VS (in)

## LM75CIMMX-5
designator U?
Digital Temperature Sensor and Thermal Watchdog with Two-Wire Interface, 8 pin MINI SOIC; PartNumber: LM75CIMMX-5; Manufacturer: National Semiconductor; PackageTopMarking: ZXTT*T00C; PowerWise: N; CompType: Temp Sensor IC; High-Reliability: Y; DatasheetVersion: Jul-2009; PackageVersion: revF, Apr-2008; PackageReference: MUA08A; PackageDescription: MINI SOIC, .118 x .118 x .034in, 8 Lead, .0256in Pitch; RoHS: N; PinCount: 8; Code_JEDEC: MO-187-AA; ComponentLink1Description: Manufacturer URL; ComponentLink1URL: http://www.national.com/; ComponentLink2Description: LM75C Datasheet; ComponentLink2URL: http://www.national.com/ds/LM/LM75C.pdf; ComponentLink3Description: LM75C Web Page; ComponentLink3URL: http://www.national.com/pf/LM/LM75C.html; ComponentLink4Description: MUA08A Package Page; ComponentLink4URL: http://www.national.com/packaging/folders/mua08a.html
footprint MUA08A_N (TSOP, 8-Leads, Body 3x3mm, Pitch 0.65mm, IPC Medium Density)
footprint MUA08A_L (TSOP, 8-Leads, Body 3x3mm, Pitch 0.65mm, IPC High Density)
footprint MUA08A_M (TSOP, 8-Leads, Body 3x3mm, Pitch 0.65mm, IPC Low Density)
pins: 1 SDA (io), 2 SCL (in), 3 O.S. (oc), 4 GND (power), 5 A2 (in), 6 A1 (in), 7 A0 (in), 8 +VS (in)

## LM75CIMMX-5/NOPB
designator U?
Digital Temperature Sensor and Thermal Watchdog with Two-Wire Interface, 8 pin MINI SOIC; PartNumber: LM75CIMMX-5/NOPB; Manufacturer: National Semiconductor; PackageTopMarking: ZXTT*T00C; PowerWise: N; CompType: Temp Sensor IC; High-Reliability: Y; DatasheetVersion: Jul-2009; PackageVersion: revF, Apr-2008; PackageReference: MUA08A; PackageDescription: MINI SOIC, .118 x .118 x .034in, 8 Lead, .0256in Pitch; RoHS: Y; PinCount: 8; Code_JEDEC: MO-187-AA; ComponentLink1Description: Manufacturer URL; ComponentLink1URL: http://www.national.com/; ComponentLink2Description: LM75C Datasheet; ComponentLink2URL: http://www.national.com/ds/LM/LM75C.pdf; ComponentLink3Description: LM75C Web Page; ComponentLink3URL: http://www.national.com/pf/LM/LM75C.html; ComponentLink4Description: MUA08A Package Page; ComponentLink4URL: http://www.national.com/packaging/folders/mua08a.html
footprint MUA08A_N (TSOP, 8-Leads, Body 3x3mm, Pitch 0.65mm, IPC Medium Density)
footprint MUA08A_L (TSOP, 8-Leads, Body 3x3mm, Pitch 0.65mm, IPC High Density)
footprint MUA08A_M (TSOP, 8-Leads, Body 3x3mm, Pitch 0.65mm, IPC Low Density)
pins: 1 SDA (io), 2 SCL (in), 3 O.S. (oc), 4 GND (power), 5 A2 (in), 6 A1 (in), 7 A0 (in), 8 +VS (in)

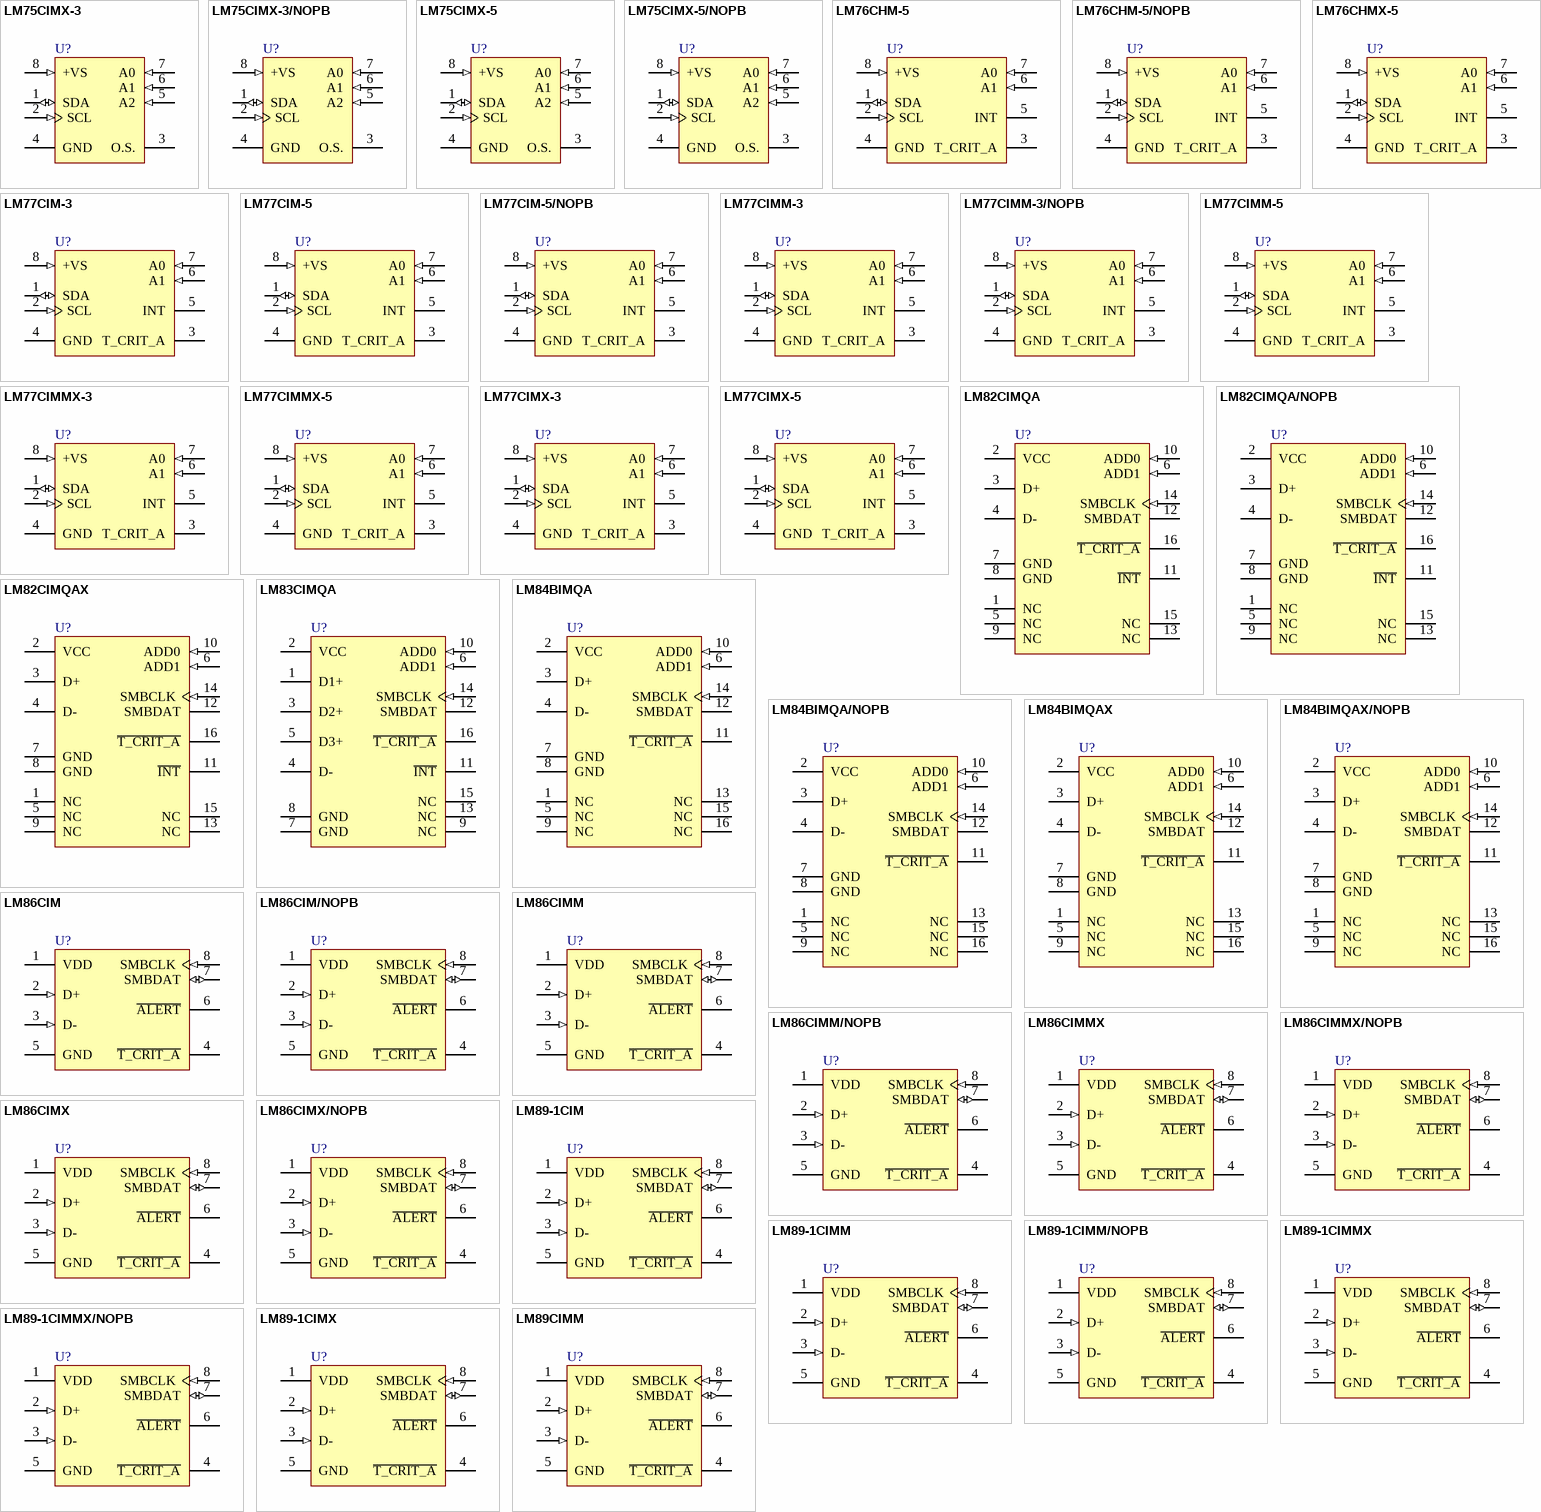
[diagram p5: symbols LM75CIMX-3 to LM89CIMM]

## LM75CIMX-3
designator U?
Digital Temperature Sensor and Thermal Watchdog with Two-Wire Interface, 8 pin SOIC NARROW; PartNumber: LM75CIMX-3; Manufacturer: National Semiconductor; PackageTopMarking: NSZXTT*LM75*CIM3; PowerWise: N; CompType: Temp Sensor IC; High-Reliability: Y; DatasheetVersion: Jul-2009; PackageVersion: revM, May-2009; PackageReference: M08A; PackageDescription: SOIC Narrow, 4.9 x 3.9 x 1.45mm, 8 Lead, 1.27mm Pitch; RoHS: N; PinCount: 8; Code_JEDEC: MS-012-AA; Code_IPC: SOIC127P600-8; ComponentLink1Description: Manufacturer URL; ComponentLink1URL: http://www.national.com/; ComponentLink2Description: LM75C Datasheet; ComponentLink2URL: http://www.national.com/ds/LM/LM75C.pdf; ComponentLink3Description: LM75C Web Page; ComponentLink3URL: http://www.national.com/pf/LM/LM75C.html; ComponentLink4Description: M08A Package Page; ComponentLink4URL: http://www.national.com/packaging/folders/m08a.html
footprint M08A_N (SOIC, 8-Leads, Body 4.9x3.9mm, Pitch 1.27mm, IPC Medium Density)
footprint M08A_L (SOIC, 8-Leads, Body 4.9x3.9mm, Pitch 1.27mm, IPC High Density)
footprint M08A_M (SOIC, 8-Leads, Body 4.9x3.9mm, Pitch 1.27mm, IPC Low Density)
pins: 1 SDA (io), 2 SCL (in), 3 O.S. (oc), 4 GND (power), 5 A2 (in), 6 A1 (in), 7 A0 (in), 8 +VS (in)

## LM75CIMX-3/NOPB
designator U?
Digital Temperature Sensor and Thermal Watchdog with Two-Wire Interface, 8 pin SOIC NARROW; PartNumber: LM75CIMX-3/NOPB; Manufacturer: National Semiconductor; PackageTopMarking: NSZXTT*LM75*CIM3; PowerWise: N; CompType: Temp Sensor IC; High-Reliability: Y; DatasheetVersion: Jul-2009; PackageVersion: revM, May-2009; PackageReference: M08A; PackageDescription: SOIC Narrow, 4.9 x 3.9 x 1.45mm, 8 Lead, 1.27mm Pitch; RoHS: Y; PinCount: 8; Code_JEDEC: MS-012-AA; Code_IPC: SOIC127P600-8; ComponentLink1Description: Manufacturer URL; ComponentLink1URL: http://www.national.com/; ComponentLink2Description: LM75C Datasheet; ComponentLink2URL: http://www.national.com/ds/LM/LM75C.pdf; ComponentLink3Description: LM75C Web Page; ComponentLink3URL: http://www.national.com/pf/LM/LM75C.html; ComponentLink4Description: M08A Package Page; ComponentLink4URL: http://www.national.com/packaging/folders/m08a.html
footprint M08A_N (SOIC, 8-Leads, Body 4.9x3.9mm, Pitch 1.27mm, IPC Medium Density)
footprint M08A_L (SOIC, 8-Leads, Body 4.9x3.9mm, Pitch 1.27mm, IPC High Density)
footprint M08A_M (SOIC, 8-Leads, Body 4.9x3.9mm, Pitch 1.27mm, IPC Low Density)
pins: 1 SDA (io), 2 SCL (in), 3 O.S. (oc), 4 GND (power), 5 A2 (in), 6 A1 (in), 7 A0 (in), 8 +VS (in)

## LM75CIMX-5
designator U?
Digital Temperature Sensor and Thermal Watchdog with Two-Wire Interface, 8 pin SOIC NARROW; PartNumber: LM75CIMX-5; Manufacturer: National Semiconductor; PackageTopMarking: NSZXTT*LM75*CIM5; PowerWise: N; CompType: Temp Sensor IC; High-Reliability: Y; DatasheetVersion: Jul-2009; PackageVersion: revM, May-2009; PackageReference: M08A; PackageDescription: SOIC Narrow, 4.9 x 3.9 x 1.45mm, 8 Lead, 1.27mm Pitch; RoHS: N; PinCount: 8; Code_JEDEC: MS-012-AA; Code_IPC: SOIC127P600-8; ComponentLink1Description: Manufacturer URL; ComponentLink1URL: http://www.national.com/; ComponentLink2Description: LM75C Datasheet; ComponentLink2URL: http://www.national.com/ds/LM/LM75C.pdf; ComponentLink3Description: LM75C Web Page; ComponentLink3URL: http://www.national.com/pf/LM/LM75C.html; ComponentLink4Description: M08A Package Page; ComponentLink4URL: http://www.national.com/packaging/folders/m08a.html
footprint M08A_N (SOIC, 8-Leads, Body 4.9x3.9mm, Pitch 1.27mm, IPC Medium Density)
footprint M08A_L (SOIC, 8-Leads, Body 4.9x3.9mm, Pitch 1.27mm, IPC High Density)
footprint M08A_M (SOIC, 8-Leads, Body 4.9x3.9mm, Pitch 1.27mm, IPC Low Density)
pins: 1 SDA (io), 2 SCL (in), 3 O.S. (oc), 4 GND (power), 5 A2 (in), 6 A1 (in), 7 A0 (in), 8 +VS (in)

## LM75CIMX-5/NOPB
designator U?
Digital Temperature Sensor and Thermal Watchdog with Two-Wire Interface, 8 pin SOIC NARROW; PartNumber: LM75CIMX-5/NOPB; Manufacturer: National Semiconductor; PackageTopMarking: NSZXTT*LM75*CIM5; PowerWise: N; CompType: Temp Sensor IC; High-Reliability: Y; DatasheetVersion: Jul-2009; PackageVersion: revM, May-2009; PackageReference: M08A; PackageDescription: SOIC Narrow, 4.9 x 3.9 x 1.45mm, 8 Lead, 1.27mm Pitch; RoHS: Y; PinCount: 8; Code_JEDEC: MS-012-AA; Code_IPC: SOIC127P600-8; ComponentLink1Description: Manufacturer URL; ComponentLink1URL: http://www.national.com/; ComponentLink2Description: LM75C Datasheet; ComponentLink2URL: http://www.national.com/ds/LM/LM75C.pdf; ComponentLink3Description: LM75C Web Page; ComponentLink3URL: http://www.national.com/pf/LM/LM75C.html; ComponentLink4Description: M08A Package Page; ComponentLink4URL: http://www.national.com/packaging/folders/m08a.html
footprint M08A_N (SOIC, 8-Leads, Body 4.9x3.9mm, Pitch 1.27mm, IPC Medium Density)
footprint M08A_L (SOIC, 8-Leads, Body 4.9x3.9mm, Pitch 1.27mm, IPC High Density)
footprint M08A_M (SOIC, 8-Leads, Body 4.9x3.9mm, Pitch 1.27mm, IPC Low Density)
pins: 1 SDA (io), 2 SCL (in), 3 O.S. (oc), 4 GND (power), 5 A2 (in), 6 A1 (in), 7 A0 (in), 8 +VS (in)

## LM76CHM-5
designator U?
±0.5ºC, ±1ºC, 12-Bit + Sign Digital Temperature Sensor and Thermal Window Comparator with Two-Wire Interface, 8-pin Narrow SOIC; PartNumber: LM76CHM-5; Manufacturer: National Semiconductor; PackageTopMarking: NSZXTT*LM76*CHM-5; PowerWise: N; CompType: Temp Sensor IC; High-Reliability: Y; DatasheetVersion: Jan-2000; PackageVersion: revM, May-2009; PackageReference: M08A; PackageDescription: SOIC Narrow, 4.9 x 3.9 x 1.45mm, 8 Lead, 1.27mm Pitch; RoHS: N; PinCount: 8; Code_JEDEC: MS-012-AA; Code_IPC: SOIC127P600-8; ComponentLink1Description: Manufacturer URL; ComponentLink1URL: http://www.national.com/; ComponentLink2Description: LM76 Datasheet; ComponentLink2URL: http://www.national.com/ds/LM/LM76.pdf; ComponentLink3Description: LM76 Web Page; ComponentLink3URL: http://www.national.com/pf/LM/LM76.html; ComponentLink4Description: M08A Package Page; ComponentLink4URL: http://www.national.com/packaging/folders/m08a.html
footprint M08A_N (SOIC, 8-Leads, Body 4.9x3.9mm, Pitch 1.27mm, IPC Medium Density)
footprint M08A_L (SOIC, 8-Leads, Body 4.9x3.9mm, Pitch 1.27mm, IPC High Density)
footprint M08A_M (SOIC, 8-Leads, Body 4.9x3.9mm, Pitch 1.27mm, IPC Low Density)
pins: 1 SDA (io), 2 SCL (in), 3 T_CRIT_A (oc), 4 GND (power), 5 INT (oc), 6 A1 (in), 7 A0 (in), 8 +VS (in)

## LM76CHM-5/NOPB
designator U?
±0.5°C, ±1°C, 12-Bit + Sign Digital Temperature Sensor and Thermal Window Comparator with Two-Wire Interface, 8-pin Narrow SOIC, Pb-Free; PartNumber: LM76CHM-5/NOPB; Manufacturer: National Semiconductor; PackageTopMarking: NSZXTT*LM76*CHM-5; PowerWise: N; CompType: Temp Sensor IC; High-Reliability: Y; DatasheetVersion: Jan-2000; PackageVersion: revM, May-2009; PackageReference: M08A; PackageDescription: SOIC Narrow, 4.9 x 3.9 x 1.45mm, 8 Lead, 1.27mm Pitch; RoHS: Y; PinCount: 8; Code_JEDEC: MS-012-AA; Code_IPC: SOIC127P600-8; ComponentLink1Description: Manufacturer URL; ComponentLink1URL: http://www.national.com/; ComponentLink2Description: LM76 Datasheet; ComponentLink2URL: http://www.national.com/ds/LM/LM76.pdf; ComponentLink3Description: LM76 Web Page; ComponentLink3URL: http://www.national.com/pf/LM/LM76.html; ComponentLink4Description: M08A Package Page; ComponentLink4URL: http://www.national.com/packaging/folders/m08a.html
footprint M08A_N (SOIC, 8-Leads, Body 4.9x3.9mm, Pitch 1.27mm, IPC Medium Density)
footprint M08A_L (SOIC, 8-Leads, Body 4.9x3.9mm, Pitch 1.27mm, IPC High Density)
footprint M08A_M (SOIC, 8-Leads, Body 4.9x3.9mm, Pitch 1.27mm, IPC Low Density)
pins: 1 SDA (io), 2 SCL (in), 3 T_CRIT_A (oc), 4 GND (power), 5 INT (oc), 6 A1 (in), 7 A0 (in), 8 +VS (in)

## LM76CHMX-5
designator U?
±0.5°C, ±1°C, 12-Bit + Sign Digital Temperature Sensor and Thermal Window Comparator with Two-Wire Interface, 8-pin Narrow SOIC; PartNumber: LM76CHMX-5; Manufacturer: National Semiconductor; PackageTopMarking: NSZXTT*LM76*CHM-5; PowerWise: N; CompType: Temp Sensor IC; High-Reliability: Y; DatasheetVersion: Jan-2000; PackageVersion: revM, May-2009; PackageReference: M08A; PackageDescription: SOIC Narrow, 4.9 x 3.9 x 1.45mm, 8 Lead, 1.27mm Pitch; RoHS: N; PinCount: 8; Code_JEDEC: MS-012-AA; Code_IPC: SOIC127P600-8; ComponentLink1Description: Manufacturer URL; ComponentLink1URL: http://www.national.com/; ComponentLink2Description: LM76 Datasheet; ComponentLink2URL: http://www.national.com/ds/LM/LM76.pdf; ComponentLink3Description: LM76 Web Page; ComponentLink3URL: http://www.national.com/pf/LM/LM76.html; ComponentLink4Description: M08A Package Page; ComponentLink4URL: http://www.national.com/packaging/folders/m08a.html
footprint M08A_N (SOIC, 8-Leads, Body 4.9x3.9mm, Pitch 1.27mm, IPC Medium Density)
footprint M08A_L (SOIC, 8-Leads, Body 4.9x3.9mm, Pitch 1.27mm, IPC High Density)
footprint M08A_M (SOIC, 8-Leads, Body 4.9x3.9mm, Pitch 1.27mm, IPC Low Density)
pins: 1 SDA (io), 2 SCL (in), 3 T_CRIT_A (oc), 4 GND (power), 5 INT (oc), 6 A1 (in), 7 A0 (in), 8 +VS (in)

## LM77CIM-3
designator U?
9-Bit + Sign Digital Temperature Sensor and Thermal Window Comparator with Two-Wire Interface, 8-pin Narrow SOIC; PartNumber: LM77CIM-3; Manufacturer: National Semiconductor; PackageTopMarking: NSZXTT*LM77*CIM-3; PowerWise: N; CompType: Temp Sensor IC; High-Reliability: Y; DatasheetVersion: Jul-2001; PackageVersion: revM, May-2009; PackageReference: M08A; PackageDescription: SOIC Narrow, 4.9 x 3.9 x 1.45mm, 8 Lead, 1.27mm Pitch; RoHS: N; PinCount: 8; Code_JEDEC: MS-012-AA; Code_IPC: SOIC127P600-8; ComponentLink1Description: Manufacturer URL; ComponentLink1URL: http://www.national.com/; ComponentLink2Description: LM77 Datasheet; ComponentLink2URL: http://www.national.com/ds/LM/LM77.pdf; ComponentLink3Description: LM77 Web Page; ComponentLink3URL: http://www.national.com/pf/LM/LM77.html; ComponentLink4Description: M08A Package Page; ComponentLink4URL: http://www.national.com/packaging/folders/m08a.html
footprint M08A_N (SOIC, 8-Leads, Body 4.9x3.9mm, Pitch 1.27mm, IPC Medium Density)
footprint M08A_L (SOIC, 8-Leads, Body 4.9x3.9mm, Pitch 1.27mm, IPC High Density)
footprint M08A_M (SOIC, 8-Leads, Body 4.9x3.9mm, Pitch 1.27mm, IPC Low Density)
pins: 1 SDA (io), 2 SCL (in), 3 T_CRIT_A (oc), 4 GND (power), 5 INT (oc), 6 A1 (in), 7 A0 (in), 8 +VS (in)

## LM77CIM-5
designator U?
9-Bit + Sign Digital Temperature Sensor and Thermal Window Comparator with Two-Wire Interface, 8-pin Narrow SOIC; PartNumber: LM77CIM-5; Manufacturer: National Semiconductor; PackageTopMarking: NSZXTT*LM77*CIM-5; PowerWise: N; CompType: Temp Sensor IC; High-Reliability: Y; DatasheetVersion: Jul-2001; PackageVersion: revM, May-2009; PackageReference: M08A; PackageDescription: SOIC Narrow, 4.9 x 3.9 x 1.45mm, 8 Lead, 1.27mm Pitch; RoHS: N; PinCount: 8; Code_JEDEC: MS-012-AA; Code_IPC: SOIC127P600-8; ComponentLink1Description: Manufacturer URL; ComponentLink1URL: http://www.national.com/; ComponentLink2Description: LM77 Datasheet; ComponentLink2URL: http://www.national.com/ds/LM/LM77.pdf; ComponentLink3Description: LM77 Web Page; ComponentLink3URL: http://www.national.com/pf/LM/LM77.html; ComponentLink4Description: M08A Package Page; ComponentLink4URL: http://www.national.com/packaging/folders/m08a.html
footprint M08A_N (SOIC, 8-Leads, Body 4.9x3.9mm, Pitch 1.27mm, IPC Medium Density)
footprint M08A_L (SOIC, 8-Leads, Body 4.9x3.9mm, Pitch 1.27mm, IPC High Density)
footprint M08A_M (SOIC, 8-Leads, Body 4.9x3.9mm, Pitch 1.27mm, IPC Low Density)
pins: 1 SDA (io), 2 SCL (in), 3 T_CRIT_A (oc), 4 GND (power), 5 INT (oc), 6 A1 (in), 7 A0 (in), 8 +VS (in)

## LM77CIM-5/NOPB
designator U?
9-Bit + Sign Digital Temperature Sensor and Thermal Window Comparator with Two-Wire Interface, 8-pin Narrow SOIC, Pb-Free; PartNumber: LM77CIM-5/NOPB; Manufacturer: National Semiconductor; PackageTopMarking: NSZXTT*LM77*CIM-5; PowerWise: N; CompType: Temp Sensor IC; High-Reliability: Y; DatasheetVersion: Jul-2001; PackageVersion: revM, May-2009; PackageReference: M08A; PackageDescription: SOIC Narrow, 4.9 x 3.9 x 1.45mm, 8 Lead, 1.27mm Pitch; RoHS: Y; PinCount: 8; Code_JEDEC: MS-012-AA; Code_IPC: SOIC127P600-8; ComponentLink1Description: Manufacturer URL; ComponentLink1URL: http://www.national.com/; ComponentLink2Description: LM77 Datasheet; ComponentLink2URL: http://www.national.com/ds/LM/LM77.pdf; ComponentLink3Description: LM77 Web Page; ComponentLink3URL: http://www.national.com/pf/LM/LM77.html; ComponentLink4Description: M08A Package Page; ComponentLink4URL: http://www.national.com/packaging/folders/m08a.html
footprint M08A_N (SOIC, 8-Leads, Body 4.9x3.9mm, Pitch 1.27mm, IPC Medium Density)
footprint M08A_L (SOIC, 8-Leads, Body 4.9x3.9mm, Pitch 1.27mm, IPC High Density)
footprint M08A_M (SOIC, 8-Leads, Body 4.9x3.9mm, Pitch 1.27mm, IPC Low Density)
pins: 1 SDA (io), 2 SCL (in), 3 T_CRIT_A (oc), 4 GND (power), 5 INT (oc), 6 A1 (in), 7 A0 (in), 8 +VS (in)